# Altium footprint library PCB - POWER INDUCTORS - WURTH WE-TPC 3816.PCBLIB: 1 footprints
Each footprint in its own frame and in the unit in brackets; x right, y up, seen from the top. Pads: shape width x height; smd on the part's side, far side on the other; paste and mask are expansions set on the pad; w line width, h text height; cw(c..) or ccw(c..) is an arc to the next point about the centre after c.
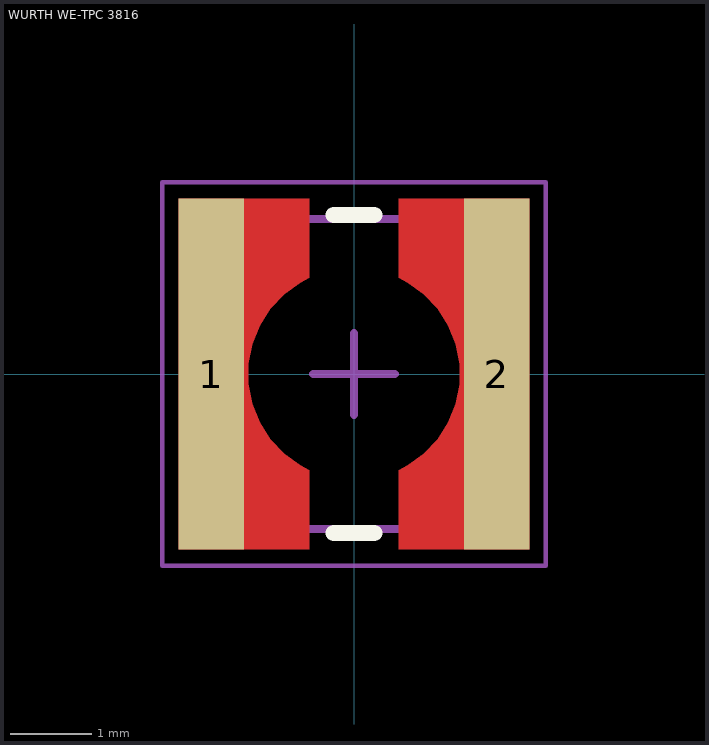
[diagram p0: the footprint, top view; thin cyan lines are the x and y axes]

## WURTH WE-TPC 3816 [mm] "Power Inductor, SMD, 2-Leads, body 3.8x3.8mm"
height 1.65
pads (2):
  rect 0.8x4.3 smd paste-403.566 mask-403.566: 1(-1.75,0) 2(1.75,0)
Top Layer:
  region: -0.55,-2.15 -2.15,-2.15 -2.15,2.15 -0.55,2.15 -0.55,1.178 -0.658,1.121 -0.857,0.977 -1.026,0.799 -1.157,0.592 -1.248,0.364 -1.294,0.123 -1.294,-0.122 -1.248,-0.363 -1.158,-0.592 -1.026,-0.798 -0.858,-0.977 -0.659,-1.121 -0.55,-1.178
  region: 0.55,2.15 2.15,2.15 2.15,-2.15 0.55,-2.15 0.55,-1.178 0.658,-1.121 0.857,-0.977 1.026,-0.799 1.157,-0.592 1.248,-0.364 1.294,-0.123 1.294,0.122 1.248,0.363 1.158,0.592 1.026,0.798 0.858,0.977 0.659,1.121 0.55,1.178
Top Overlay:
  lines w0.2: -0.25,-1.95 0.25,-1.95 ; -0.25,1.95 0.25,1.95
Mechanical 13:
  lines w0.1: -1.9,-1.9 1.9,-1.9 1.9,1.9 -1.9,1.9 -1.9,-1.9
Mechanical 15:
  lines w0.05: -0.5,0 0.5,0 ; 0,-0.5 0,0.5 ; -2.35,-2.35 2.35,-2.35 2.35,2.35 -2.35,2.35 -2.35,-2.35
  lines w0.1: -0.5,0 0.5,0 ; 0,-0.5 0,0.5
3D body "WURTH - WE-TPC H1.65mm.step": height 1.65, standoff 0, extent -1.958,-1.87 1.842,1.93